# Altium footprint library Button_Switch_Keyboard.PcbLib: 29 footprints (part 2 of 2)
Each footprint in its own frame and in the unit in brackets; x right, y up, seen from the top. Pads: shape width x height; smd on the part's side, far side on the other; paste and mask are expansions set on the pad; w line width, h text height; cw(c..) or ccw(c..) is an arc to the next point about the centre after c.
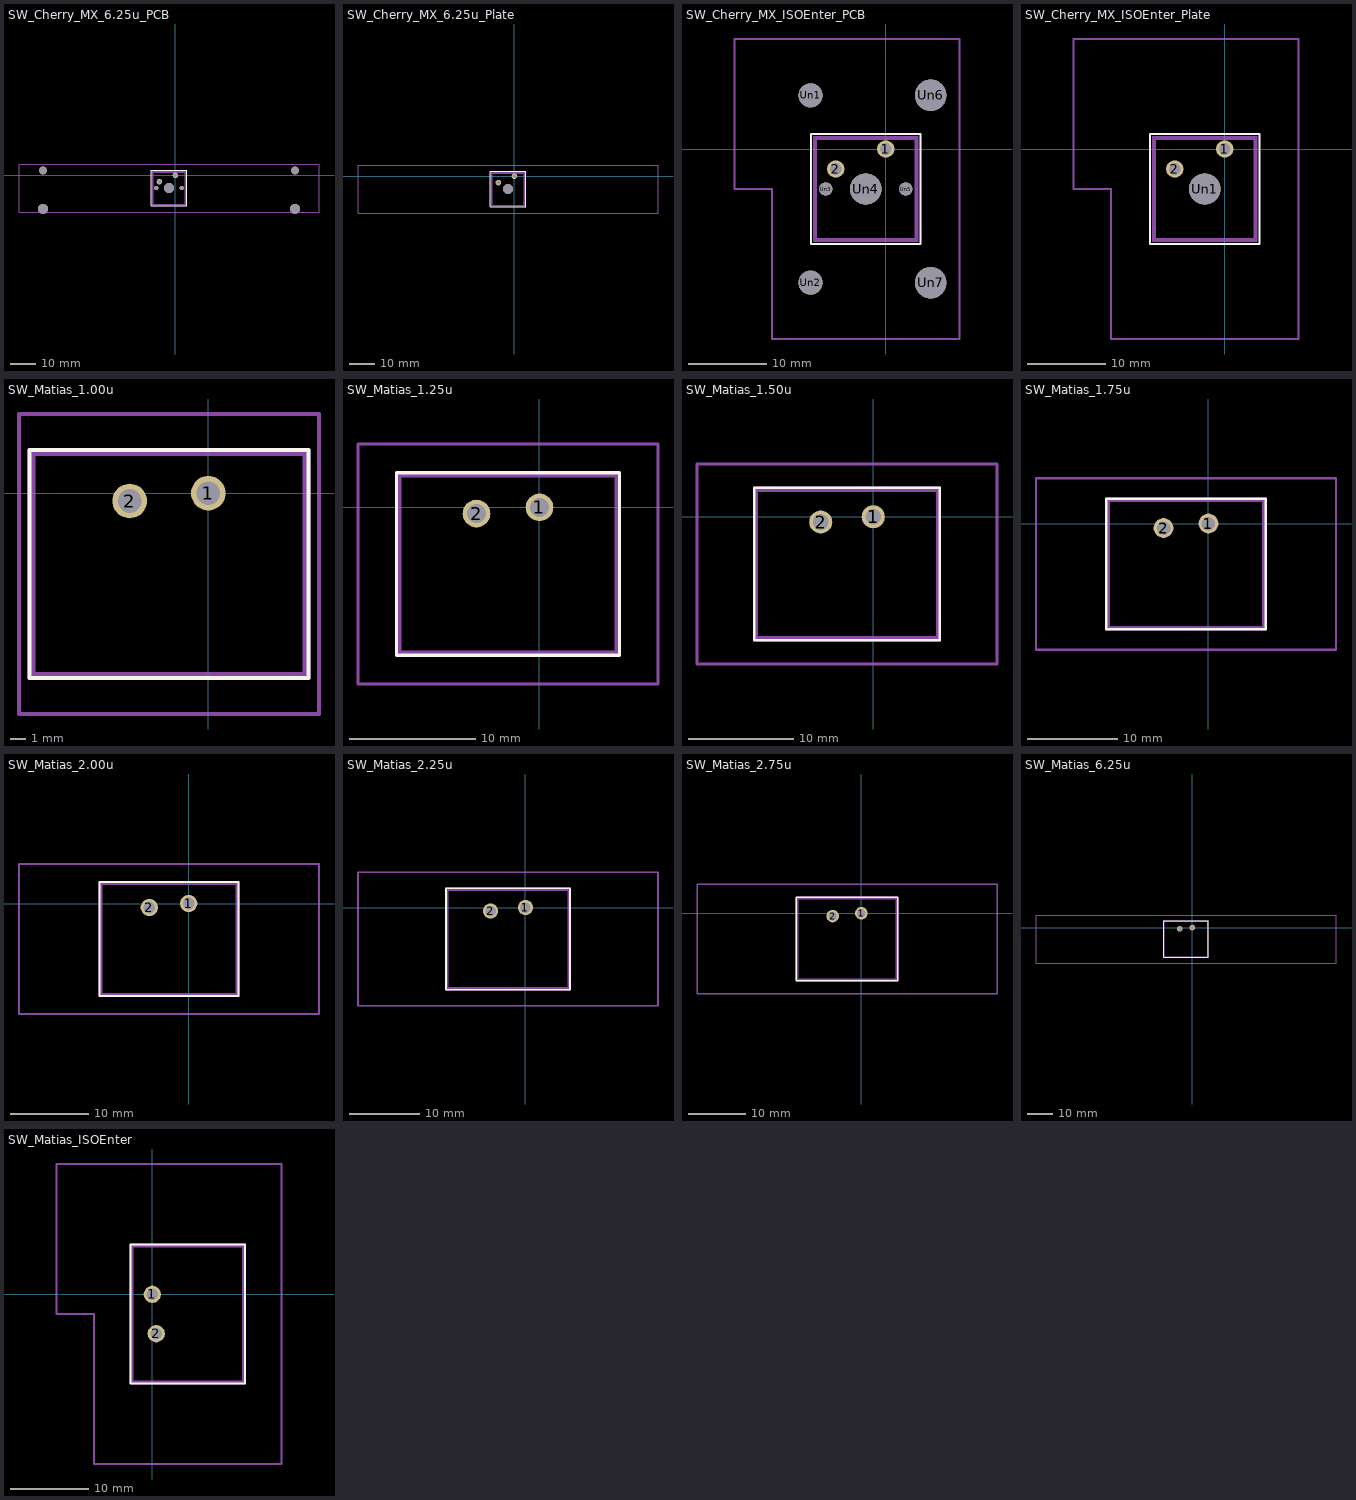
[diagram p1: the footprints below, top view; thin cyan lines are the x and y axes]

## SW_Cherry_MX_6.25u_PCB [mm]
pads (9):
  round 2.2 hole 1.5: 1(0,0) 2(-6.35,-2.54)
  round 3.05 hole 3.05: Un1(-52.54,1.92) Un6(47.46,1.92)
  round 4 hole 4: Un2(-52.54,-13.32) Un4(-2.54,-5.08) Un7(47.46,-13.32)
  round 1.7 hole 1.7: Un3(-7.62,-5.08) Un5(2.54,-5.08)
F.SilkS:
  lines w0.254: -9.525,-12.065 4.445,-12.065 4.445,1.905 -9.525,1.905 -9.525,-12.065
Top Assembly:
  lines w0.254: -8.89,-11.43 3.81,-11.43 3.81,1.27 -8.89,1.27 -8.89,-11.43
  text "'.Designator'" at -6.587,1.954 h1
Top Courtyard:
  lines w0.254: -9.14,-11.68 4.06,-11.68 4.06,1.52 -9.14,1.52 -9.14,-11.68
Top Designator:
  text ".Designator" at -10.158,-5.933 h1.52
Dwgs.User:
  lines w0.254: -62.071,-14.605 56.991,-14.605 56.991,4.445 -62.071,4.445 -62.071,-14.605

## SW_Cherry_MX_6.25u_Plate [mm]
pads (3):
  round 2.2 hole 1.5: 1(0,0) 2(-6.35,-2.54)
  round 4 hole 4: Un1(-2.54,-5.08)
F.SilkS:
  lines w0.254: -9.525,-12.065 4.445,-12.065 4.445,1.905 -9.525,1.905 -9.525,-12.065
Top Assembly:
  lines w0.254: -8.89,-11.43 3.81,-11.43 3.81,1.27 -8.89,1.27 -8.89,-11.43
  text "'.Designator'" at -6.587,1.954 h1
Top Courtyard:
  lines w0.254: -9.14,-11.68 4.06,-11.68 4.06,1.52 -9.14,1.52 -9.14,-11.68
Top Designator:
  text ".Designator" at -10.158,-5.588 h1.52
Dwgs.User:
  lines w0.254: -62.071,-14.605 56.991,-14.605 56.991,4.445 -62.071,4.445 -62.071,-14.605

## SW_Cherry_MX_ISOEnter_PCB [mm]
pads (9):
  round 2.2 hole 1.5: 1(0,0) 2(-6.35,-2.54)
  round 3.05 hole 3.05: Un1(-9.54,6.82) Un2(-9.54,-16.98)
  round 1.7 hole 1.7: Un3(-7.62,-5.08) Un5(2.54,-5.08)
  round 4 hole 4: Un4(-2.54,-5.08) Un6(5.7,6.82) Un7(5.7,-16.98)
F.SilkS:
  lines w0.254: -9.525,-12.065 4.445,-12.065 4.445,1.905 -9.525,1.905 -9.525,-12.065
Top Assembly:
  lines w0.254: -8.89,-11.43 3.81,-11.43 3.81,1.27 -8.89,1.27 -8.89,-11.43
  text "'.Designator'" at -6.587,1.954 h1
Top Courtyard:
  lines w0.254: -9.14,-11.68 4.06,-11.68 4.06,1.52 -9.14,1.52 -9.14,-11.68
Top Designator:
  text ".Designator" at -12.539,-5.588 h1.52
Dwgs.User:
  lines w0.254: -19.209,-5.08 -14.446,-5.08 -14.446,-24.13 9.366,-24.13 9.366,13.97 -19.209,13.97 -19.209,-5.08

## SW_Cherry_MX_ISOEnter_Plate [mm]
pads (3):
  round 2.2 hole 1.5: 1(0,0) 2(-6.35,-2.54)
  round 4 hole 4: Un1(-2.54,-5.08)
F.SilkS:
  lines w0.254: -9.525,-12.065 4.445,-12.065 4.445,1.905 -9.525,1.905 -9.525,-12.065
Top Assembly:
  lines w0.254: -8.89,-11.43 3.81,-11.43 3.81,1.27 -8.89,1.27 -8.89,-11.43
  text "'.Designator'" at -6.587,1.954 h1
Top Courtyard:
  lines w0.254: -9.14,-11.68 4.06,-11.68 4.06,1.52 -9.14,1.52 -9.14,-11.68
Top Designator:
  text ".Designator" at -12.539,-5.588 h1.52
Dwgs.User:
  lines w0.254: -19.209,-5.08 -14.446,-5.08 -14.446,-24.13 9.366,-24.13 9.366,13.97 -19.209,13.97 -19.209,-5.08

## SW_Matias_1.00u [mm]
pads (2):
  round 2.2 hole 1.5: 1(0,0) 2(-5,-0.5)
F.SilkS:
  lines w0.254: -11.35,-11.75 6.35,-11.75 6.35,2.75 -11.35,2.75 -11.35,-11.75
Top Assembly:
  lines w0.254: -11.1,-11.5 6.1,-11.5 6.1,2.5 -11.1,2.5 -11.1,-11.5
  text "'.Designator'" at -6.547,-5.34 h1
Top Courtyard:
  lines w0.254: -11.35,-11.75 6.35,-11.75 6.35,2.75 -11.35,2.75 -11.35,-11.75
Top Designator:
  text ".Designator" at -10.118,-5.008 h1.52
Dwgs.User:
  lines w0.254: -12.025,-14.025 7.025,-14.025 7.025,5.025 -12.025,5.025 -12.025,-14.025

## SW_Matias_1.25u [mm]
pads (2):
  round 2.2 hole 1.5: 1(0,0) 2(-5,-0.5)
F.SilkS:
  lines w0.254: -11.35,-11.75 6.35,-11.75 6.35,2.75 -11.35,2.75 -11.35,-11.75
Top Assembly:
  lines w0.254: -11.1,-11.5 6.1,-11.5 6.1,2.5 -11.1,2.5 -11.1,-11.5
  text "'.Designator'" at -6.547,-5.34 h1
Top Courtyard:
  lines w0.254: -11.35,-11.75 6.35,-11.75 6.35,2.75 -11.35,2.75 -11.35,-11.75
Top Designator:
  text ".Designator" at -10.118,-5.008 h1.52
Dwgs.User:
  lines w0.254: -14.406,-14.025 9.406,-14.025 9.406,5.025 -14.406,5.025 -14.406,-14.025

## SW_Matias_1.50u [mm]
pads (2):
  round 2.2 hole 1.5: 1(0,0) 2(-5,-0.5)
F.SilkS:
  lines w0.254: -11.35,-11.75 6.35,-11.75 6.35,2.75 -11.35,2.75 -11.35,-11.75
Top Assembly:
  lines w0.254: -11.1,-11.5 6.1,-11.5 6.1,2.5 -11.1,2.5 -11.1,-11.5
  text "'.Designator'" at -6.547,-5.34 h1
Top Courtyard:
  lines w0.254: -11.35,-11.75 6.35,-11.75 6.35,2.75 -11.35,2.75 -11.35,-11.75
Top Designator:
  text ".Designator" at -10.118,-5.008 h1.52
Dwgs.User:
  lines w0.254: -16.788,-14.025 11.787,-14.025 11.787,5.025 -16.788,5.025 -16.788,-14.025

## SW_Matias_1.75u [mm]
pads (2):
  round 2.2 hole 1.5: 1(0,0) 2(-5,-0.5)
F.SilkS:
  lines w0.254: -11.35,-11.75 6.35,-11.75 6.35,2.75 -11.35,2.75 -11.35,-11.75
Top Assembly:
  lines w0.254: -11.1,-11.5 6.1,-11.5 6.1,2.5 -11.1,2.5 -11.1,-11.5
  text "'.Designator'" at -6.547,-5.34 h1
Top Courtyard:
  lines w0.254: -11.35,-11.75 6.35,-11.75 6.35,2.75 -11.35,2.75 -11.35,-11.75
Top Designator:
  text ".Designator" at -10.118,-5.008 h1.52
Dwgs.User:
  lines w0.254: -19.169,-14.025 14.169,-14.025 14.169,5.025 -19.169,5.025 -19.169,-14.025

## SW_Matias_2.00u [mm]
pads (2):
  round 2.2 hole 1.5: 1(0,0) 2(-5,-0.5)
F.SilkS:
  lines w0.254: -11.35,-11.75 6.35,-11.75 6.35,2.75 -11.35,2.75 -11.35,-11.75
Top Assembly:
  lines w0.254: -11.1,-11.5 6.1,-11.5 6.1,2.5 -11.1,2.5 -11.1,-11.5
  text "'.Designator'" at -6.547,-5.34 h1
Top Courtyard:
  lines w0.254: -11.35,-11.75 6.35,-11.75 6.35,2.75 -11.35,2.75 -11.35,-11.75
Top Designator:
  text ".Designator" at -10.118,-5.008 h1.52
Dwgs.User:
  lines w0.254: -21.55,-14.025 16.55,-14.025 16.55,5.025 -21.55,5.025 -21.55,-14.025

## SW_Matias_2.25u [mm]
pads (2):
  round 2.2 hole 1.5: 1(0,0) 2(-5,-0.5)
F.SilkS:
  lines w0.254: -11.35,-11.75 6.35,-11.75 6.35,2.75 -11.35,2.75 -11.35,-11.75
Top Assembly:
  lines w0.254: -11.1,-11.5 6.1,-11.5 6.1,2.5 -11.1,2.5 -11.1,-11.5
  text "'.Designator'" at -6.547,-5.34 h1
Top Courtyard:
  lines w0.254: -11.35,-11.75 6.35,-11.75 6.35,2.75 -11.35,2.75 -11.35,-11.75
Top Designator:
  text ".Designator" at -10.118,-5.008 h1.52
Dwgs.User:
  lines w0.254: -23.931,-14.025 18.931,-14.025 18.931,5.025 -23.931,5.025 -23.931,-14.025

## SW_Matias_2.75u [mm]
pads (2):
  round 2.2 hole 1.5: 1(0,0) 2(-5,-0.5)
F.SilkS:
  lines w0.254: -11.35,-11.75 6.35,-11.75 6.35,2.75 -11.35,2.75 -11.35,-11.75
Top Assembly:
  lines w0.254: -11.1,-11.5 6.1,-11.5 6.1,2.5 -11.1,2.5 -11.1,-11.5
  text "'.Designator'" at -6.547,-5.34 h1
Top Courtyard:
  lines w0.254: -11.35,-11.75 6.35,-11.75 6.35,2.75 -11.35,2.75 -11.35,-11.75
Top Designator:
  text ".Designator" at -10.118,-5.008 h1.52
Dwgs.User:
  lines w0.254: -28.694,-14.025 23.694,-14.025 23.694,5.025 -28.694,5.025 -28.694,-14.025

## SW_Matias_6.25u [mm]
pads (2):
  round 2.2 hole 1.5: 1(0,0) 2(-5,-0.5)
F.SilkS:
  lines w0.254: -11.35,-11.75 6.35,-11.75 6.35,2.75 -11.35,2.75 -11.35,-11.75
Top Assembly:
  lines w0.254: -11.1,-11.5 6.1,-11.5 6.1,2.5 -11.1,2.5 -11.1,-11.5
  text "'.Designator'" at -6.547,-5.34 h1
Top Courtyard:
  lines w0.254: -11.35,-11.75 6.35,-11.75 6.35,2.75 -11.35,2.75 -11.35,-11.75
Top Designator:
  text ".Designator" at -10.118,-5.008 h1.52
Dwgs.User:
  lines w0.254: -62.031,-14.025 57.031,-14.025 57.031,5.025 -62.031,5.025 -62.031,-14.025

## SW_Matias_ISOEnter [mm]
pads (2):
  round 2.2 hole 1.5: 1(0,0) 2(0.5,-5)
F.SilkS:
  lines w0.254: -2.75,-11.35 11.75,-11.35 11.75,6.35 -2.75,6.35 -2.75,-11.35
Top Assembly:
  lines w0.254: -2.5,-11.1 11.5,-11.1 11.5,6.1 -2.5,6.1 -2.5,-11.1
  text "'.Designator'" at 0.453,-3.34 h1
Top Courtyard:
  lines w0.254: -2.75,-11.35 11.75,-11.35 11.75,6.35 -2.75,6.35 -2.75,-11.35
Top Designator:
  text ".Designator" at -5.499,-3.008 h1.52
Dwgs.User:
  lines w0.254: -12.169,-2.5 -7.406,-2.5 -7.406,-21.55 16.406,-21.55 16.406,16.55 -12.169,16.55 -12.169,-2.5